# EAGLE library part SPARKFUN-CONNECTORS_CONN_06 (library PICBoardv1.0)
Multi connection point. Often used as Generic Header-pin footprint for 0.1 inch spaced/style header connections On any of the 0.1 inch spaced packages, you can populate with these: Break Away Headers - Straight <https://www.sparkfun.com/products/116> (PRT-00116) Break Away Male Headers - Right Angle <https://www.sparkfun.com/products/553> (PRT-00553) Female Headers <https://www.sparkfun.com/products/115> (PRT-00115) Break Away Headers - Machine Pin <https://www.sparkfun.com/products/117> (PRT-00117) Break Away Female Headers - Swiss Machine Pin <https://www.sparkfun.com/products/743> (PRT-00743) Arduino Stackable Header - 6 Pin <https://www.sparkfun.com/products/9280> (PRT-09280) For SCREWTERMINALS and SPRING TERMINALS visit here: Screw Terimnals on SparkFun.com <https://www.sparkfun.com/search/results?term=Screw+Terminals> (5mm/3.5mm/2.54mm spacing) This device is also useful as a general connection point to wire up your design to another part of your project. Our various solder wires solder well into these plated through hole pads. Hook-Up Wire - Assortment (Stranded, 22 AWG) <https://www.sparkfun.com/products/11375> (PRT-11375) Hook-Up Wire - Assortment (Solid Core, 22 AWG) <https://www.sparkfun.com/products/11367> (PRT-11367) View the entire wire category on our website here <https://www.sparkfun.com/categories/141>
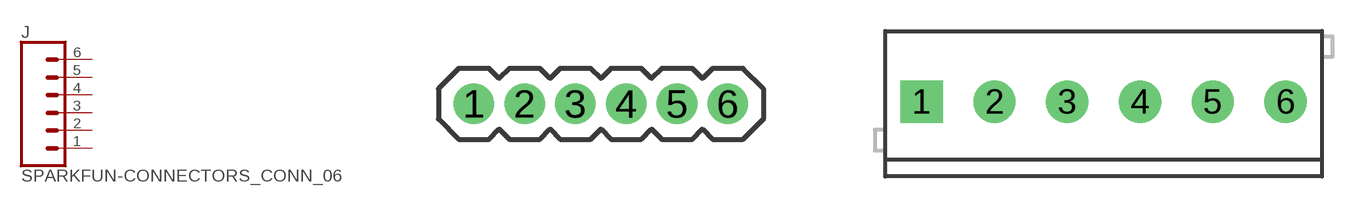
[diagram p1: symbol with the pads of SPARKFUN-CONNECTORS_1X06_1.27MM; footprints SPARKFUN-CONNECTORS_1X06_1.27MM, SPARKFUN-CONNECTORS_SCREWTERMINAL-3.5MM-6]

Designator prefix J

## SPARKFUN-CONNECTORS_CONN_061.27MM  [SPARKFUN-CONNECTORS_1X06_1.27MM]
1  1  pas
2  2  pas
3  3  pas
4  4  pas
5  5  pas
6  6  pas

## SPARKFUN-CONNECTORS_CONN_063.5MM-6  [SPARKFUN-CONNECTORS_SCREWTERMINAL-3.5MM-6]
Pads as for SPARKFUN-CONNECTORS_1X06_1.27MM

## SPARKFUN-CONNECTORS_CONN_06FEMALE_LOCK  [SPARKFUN-CONNECTORS_1X06_FEMALE_LOCK.010]
Pads as for SPARKFUN-CONNECTORS_1X06_1.27MM

## SPARKFUN-CONNECTORS_CONN_06LOCK  [SPARKFUN-CONNECTORS_1X06_LOCK]
Pads as for SPARKFUN-CONNECTORS_1X06_1.27MM

## SPARKFUN-CONNECTORS_CONN_06LOCK_LONGPADS  [SPARKFUN-CONNECTORS_1X06_LOCK_LONGPADS]
Pads as for SPARKFUN-CONNECTORS_1X06_1.27MM

## SPARKFUN-CONNECTORS_CONN_06LONGPADS  [SPARKFUN-CONNECTORS_1X06_LONGPADS]
Pads as for SPARKFUN-CONNECTORS_1X06_1.27MM

## SPARKFUN-CONNECTORS_CONN_06NO_SILK_FEMALE_PTH (PROD_ID: CONN-08437)  [SPARKFUN-CONNECTORS_1X06_NO_SILK]
Pads as for SPARKFUN-CONNECTORS_1X06_1.27MM

## SPARKFUN-CONNECTORS_CONN_06NO_SILK_NO_POP  [SPARKFUN-CONNECTORS_1X06_NO_SILK]
Pads as for SPARKFUN-CONNECTORS_1X06_1.27MM

## SPARKFUN-CONNECTORS_CONN_06POGOPIN_HOLES_ONLY (PROD_ID: CONN-08437)  [SPARKFUN-CONNECTORS_1X06_HOLES_ONLY]
Pads as for SPARKFUN-CONNECTORS_1X06_1.27MM

## SPARKFUN-CONNECTORS_CONN_06POLAR  [SPARKFUN-CONNECTORS_MOLEX-1X6]
Pads as for SPARKFUN-CONNECTORS_1X06_1.27MM

## SPARKFUN-CONNECTORS_CONN_06POLAR_LOCK  [SPARKFUN-CONNECTORS_MOLEX-1X6_LOCK]
Pads as for SPARKFUN-CONNECTORS_1X06_1.27MM

## SPARKFUN-CONNECTORS_CONN_06RA  [SPARKFUN-CONNECTORS_MOLEX-1X6-RA]
Pads as for SPARKFUN-CONNECTORS_1X06_1.27MM

## SPARKFUN-CONNECTORS_CONN_06RA_LOCK  [SPARKFUN-CONNECTORS_MOLEX_1X6_RA_LOCK]
Pads as for SPARKFUN-CONNECTORS_1X06_1.27MM

## SPARKFUN-CONNECTORS_CONN_06SILK_FEMALE_PTH (PROD_ID: CONN-08437)  [SPARKFUN-CONNECTORS_1X06]
Pads as for SPARKFUN-CONNECTORS_1X06_1.27MM

## SPARKFUN-CONNECTORS_CONN_06SMD (PROD_ID: CONN-08971; VALUE: RA 6Pin SMD)  [SPARKFUN-CONNECTORS_1X06-SMD_RA_MALE]
Pads as for SPARKFUN-CONNECTORS_1X06_1.27MM

## SPARKFUN-CONNECTORS_CONN_06SMD-1MM (PROD_ID: CONN-08249; SF_ID: GPS-00579)  [SPARKFUN-CONNECTORS_1X06-1MM]
Pads as for SPARKFUN-CONNECTORS_1X06_1.27MM

## SPARKFUN-CONNECTORS_CONN_06SMD-FEMALE-V2 (PROD_ID: CONN-09668)  [SPARKFUN-CONNECTORS_1X06-SMD-FEMALE]
Pads as for SPARKFUN-CONNECTORS_1X06_1.27MM

## SPARKFUN-CONNECTORS_CONN_06SMD-STRAIGHT-ALT-FEMALE (PROD_ID: CONN-10203)  [SPARKFUN-CONNECTORS_1X06_SMD_STRAIGHT_ALT]
Pads as for SPARKFUN-CONNECTORS_1X06_1.27MM

## SPARKFUN-CONNECTORS_CONN_06SMD-STRAIGHT-COMBO-FEMALE (PROD_ID: CONN-10203)  [SPARKFUN-CONNECTORS_1X06_SMD_STRAIGHT_COMBO]
Pads as for SPARKFUN-CONNECTORS_1X06_1.27MM

## SPARKFUN-CONNECTORS_CONN_06SMD-STRAIGHT-FEMALE (PROD_ID: CONN-10203)  [SPARKFUN-CONNECTORS_1X06_SMD_STRAIGHT]
Pads as for SPARKFUN-CONNECTORS_1X06_1.27MM

## SPARKFUN-CONNECTORS_CONN_06SMD_MALE (PROD_ID: CONN-11293)  [SPARKFUN-CONNECTORS_1X06_SMD_MALE]
Pads as for SPARKFUN-CONNECTORS_1X06_1.27MM

## Footprint SPARKFUN-CONNECTORS_1X06_1.27MM (pad centres in mm)
Plated Through Hole - 6 Pin Specifications: Pin count:6 Pin pitch:1.27mm Example device(s): CONN_06
drill 0.508 pad 1: 1 0,0; 2 1.27,0; 3 2.54,0; 4 3.81,0; 5 5.08,0; 6 6.35,0

## Footprint SPARKFUN-CONNECTORS_SCREWTERMINAL-3.5MM-6 (pad centres in mm)
Screw Terminal 3.5mm Pitch -6 Pin PTH Specifications: Pin count: 6 Pin pitch: 3.5mm/138mil Datasheet referenced for footprint <https://www.sparkfun.com/datasheets/Prototyping/Screw-Terminal-3.5mm.pdf> Example device(s): CONN_06
drill 1.2 pad 2.032 square: 1 0,0
drill 1.2 pad 2.032: 2 3.5,0; 3 7,0; 4 10.5,0; 5 14,0; 6 17.5,0

## Footprint SPARKFUN-CONNECTORS_1X06_FEMALE_LOCK.010 (pad centres in mm)
Plated Through Hole - 6 Pin Locking Header Includes silk outline for 6 pin female header Specifications: Pin count:6 Pin pitch:0.1" Datasheet referenced for footprint: <https://cdn.sparkfun.com/datasheets/Prototyping/SP-140520-XX-001.pdf> Example device(s): CONN_06
drill 1.016 pad 1.88: 1 0,0.254; 2 2.54,-0.254; 3 5.08,0.254; 4 7.62,-0.254; 5 10.16,0.254; 6 12.7,-0.254

## Footprint SPARKFUN-CONNECTORS_1X06_LOCK (pad centres in mm)
Plated Through Hole - 6 Pin with Locking Footprint Holes are offset 0.005" from center, locking pins in place during soldering. Specifications: Pin count:6 Pin pitch:0.1" Example device(s): CONN_06
drill 1.016 pad 1.88: 1 0,0; 2 2.54,-0.254; 3 5.08,0; 4 7.62,-0.254; 5 10.16,0; 6 12.7,-0.254

## Footprint SPARKFUN-CONNECTORS_1X06_LOCK_LONGPADS (pad centres in mm)
Plated Through Hole - 6 Pin with Locking Footprint with Long Pads Holes are offset 0.005" from center, locking pins in place during soldering. Specifications: Pin count:6 Pin pitch:0.1" Example device(s): CONN_06
drill 1.016 long: 1 0,0; 2 2.54,-0.254; 3 5.08,0; 4 7.62,-0.254; 5 10.16,0; 6 12.7,-0.254

## Footprint SPARKFUN-CONNECTORS_1X06_LONGPADS (pad centres in mm)
Plated Through Hole - 6 Pin with Long Pads Specifications: Pin count:6 Pin pitch:0.1" Example device(s): CONN_06
drill 1.118 pad 1.88 long: 1 0,0; 2 2.54,0; 3 5.08,0; 4 7.62,0; 5 10.16,0; 6 12.7,0

## Footprint SPARKFUN-CONNECTORS_1X06_NO_SILK (pad centres in mm)
Plated Through Hole - 6 Pin No Silk Outline Specifications: Pin count:6 Pin pitch:0.1" Example device(s): CONN_06
drill 1.016 pad 1.88: 1 0,0; 2 2.54,0; 3 5.08,0; 4 7.62,0; 5 10.16,0; 6 12.7,0

## Footprint SPARKFUN-CONNECTORS_1X06_HOLES_ONLY (pad centres in mm)
6 Pin Holes No silk, no plating Specifications: Pin count:6 Pin pitch:0.1" Example device(s): CONN_06
drill 0.889 pad 0.813: 1 0,0; 2 2.54,0; 3 5.08,0; 4 7.62,0; 5 10.16,0; 6 12.7,0
hole 1.473 at 0,0
hole 1.473 at 2.54,0
hole 1.473 at 5.08,0
hole 1.473 at 7.62,0
hole 1.473 at 10.16,0
hole 1.473 at 12.7,0

## Footprint SPARKFUN-CONNECTORS_MOLEX-1X6 (pad centres in mm)
Molex 6-Pin Plated Through-Hole Specifications: Pin count:6 Pin pitch:0.1" Datasheet referenced for footprint <https://www.sparkfun.com/datasheets/Prototyping/2pin_molex_set_19iv10.pdf> Example device(s): CONN_06
drill 1.016 pad 1.88: 1 0,0; 2 2.54,0; 3 5.08,0; 4 7.62,0; 5 10.16,0; 6 12.7,0

## Footprint SPARKFUN-CONNECTORS_MOLEX-1X6_LOCK (pad centres in mm)
Molex 6-Pin Plated Through-Hole Locking Footprint Holes are offset 0.005" from center to hold pins in place during soldering. Specifications: Pin count:6 Pin pitch:0.1" Datasheet referenced for footprint <https://www.sparkfun.com/datasheets/Prototyping/2pin_molex_set_19iv10.pdf> Example device(s): CONN_06
drill 1.016 pad 1.88: 1 0,0; 2 2.54,-0.254; 3 5.08,0; 4 7.62,-0.254; 5 10.16,0; 6 12.7,-0.254

## Footprint SPARKFUN-CONNECTORS_MOLEX-1X6-RA (pad centres in mm)
Molex 6-Pin Plated Through-Hole Right Angle tPlace shows angle of connector. Specifications: Pin count:6 Pin pitch:0.1" Datasheet referenced for footprint <https://www.sparkfun.com/datasheets/Prototyping/2pin_molex_set_19iv10.pdf> Example device(s): CONN_06
drill 1.016 pad 1.88: 1 0,0; 2 2.54,0; 3 5.08,0; 4 7.62,0; 5 10.16,0; 6 12.7,0

## Footprint SPARKFUN-CONNECTORS_MOLEX_1X6_RA_LOCK (pad centres in mm)
Molex 6-Pin Plated Through-Hole Right Angle Locking Footprint Holes are offset 0.005" from center to hold pins in place during soldering. tPlace shows location of connector. Specifications: Pin count:6 Pin pitch:0.1" Datasheet referenced for footprint <https://www.sparkfun.com/datasheets/Prototyping/2pin_molex_set_19iv10.pdf> Example device(s): CONN_06
drill 1.016 pad 1.88: 1 0,0.127; 2 2.54,-0.127; 3 5.08,0.127; 4 7.62,-0.127; 5 10.16,0.127; 6 12.7,-0.127

## Footprint SPARKFUN-CONNECTORS_1X06 (pad centres in mm)
Plated Through Hole - 6 Pin Specifications: Pin count:6 Pin pitch:0.1" Example device(s): CONN_06
drill 1.016 pad 1.88: 1 0,0; 2 2.54,0; 3 5.08,0; 4 7.62,0; 5 10.16,0; 6 12.7,0

## Footprint SPARKFUN-CONNECTORS_1X06-SMD_RA_MALE (pad centres in mm)
SMD - 6 Pin Right Angle Male Header tDocu layer shows pin locations. Specifications: Pin count:6 Pin pitch:0.1" Example device(s): CONN_06
smd 1 x 3: 1 -6.35,5; 2 -3.81,5; 3 -1.27,5; 4 1.27,5; 5 3.81,5; 6 6.35,5
hole 1.4 at -5.08,0
hole 1.4 at 5.08,0

## Footprint SPARKFUN-CONNECTORS_1X06-1MM (pad centres in mm)
JST SH Vertical 6-Pin Connector -SMD Specifications: Pin count:6 Pin pitch:1mm Datasheet referenced for footprint <https://www.sparkfun.com/datasheets/GPS/EM406-SMDConnector-eSH.pdf> Example device(s): CONN_06 EM-406
smd 0.6 x 1.55: 1 -2.54,1.27; 2 -1.54,1.27; 3 -0.54,1.27; 4 0.46,1.27; 5 1.46,1.27; 6 2.46,1.27
smd 1.2 x 1.8: P$1 -3.84,-0.955; P$2 3.76,-0.955

## Footprint SPARKFUN-CONNECTORS_1X06-SMD-FEMALE (pad centres in mm)
Header - 6 pin Female SMD Right angle 0.1" Specifications: Pin count:6 Pin pitch:0.1" Datasheet referenced for footprint: <http://cdn.sparkfun.com/datasheets/Prototyping/19686.pdf> Example device(s): CONN_06
smd 1.25 x 3: 1 6.35,3.425; 2 3.81,3.425; 3 1.27,3.425; 4 -1.27,3.425; 5 -3.81,3.425; 6 -6.35,3.425

## Footprint SPARKFUN-CONNECTORS_1X06_SMD_STRAIGHT_ALT (pad centres in mm)
6 Pin SMD Female Header Alternate pin configuration Specifications: Pin count:6 Pin pitch:0.1" Datasheet referenced for footprint: <http://cdn.sparkfun.com/datasheets/Prototyping/femaleSMDheader.pdf> Example device(s): CONN_06
smd 1 x 2: 1 0,-1.65; 2 -2.54,1.65; 3 -5.08,-1.65; 4 -7.62,1.65; 5 -10.16,-1.65; 6 -12.7,1.65

## Footprint SPARKFUN-CONNECTORS_1X06_SMD_STRAIGHT_COMBO (pad centres in mm)
6 Pin SMD Female Header - Combined Footprint Specifications: Pin count:6 Pin pitch:0.1" Datasheet referenced for footprint: <http://cdn.sparkfun.com/datasheets/Prototyping/femaleSMDheader.pdf> Example device(s): CONN_06
smd 1 x 2: 1 0,-1.65; 1-2 0,1.65; 2 2.54,1.65; 2-2 2.54,-1.65; 3 5.08,-1.65; 3-2 5.08,1.65; 4 7.62,1.65; 4-2 7.62,-1.65; 5 10.16,-1.65; 5-2 10.16,1.65; 6 12.7,1.65; 6-2 12.7,-1.65

## Footprint SPARKFUN-CONNECTORS_1X06_SMD_STRAIGHT (pad centres in mm)
6 Pin SMD Female Header Specifications: Pin count:6 Pin pitch:0.1" Datasheet referenced for footprint: <http://cdn.sparkfun.com/datasheets/Prototyping/femaleSMDheader.pdf> Example device(s): CONN_06
smd 1 x 2: 1 0,1.65; 2 -2.54,-1.65; 3 -5.08,1.65; 4 -7.62,-1.65; 5 -10.16,1.65; 6 -12.7,-1.65

## Footprint SPARKFUN-CONNECTORS_1X06_SMD_MALE (pad centres in mm)
6 Pin SMD Male Header Specifications: Pin count:6 Pin pitch:0.1" Datasheet referenced for footprint: <http://cdn.sparkfun.com/datasheets/Prototyping/maleSMDheader.pdf> Example device(s): CONN_06
smd 1.02 x 6: 1 0,0; 2 2.54,0; 3 5.08,0; 4 7.62,0; 5 10.16,0; 6 12.7,0